# Altium footprint library jz_dlt0.51.PcbLib: 22 footprints (part 2 of 2)
Each footprint in its own frame and in the unit in brackets; x right, y up, seen from the top. Pads: shape width x height; smd on the part's side, far side on the other; paste and mask are expansions set on the pad; w line width, h text height; cw(c..) or ccw(c..) is an arc to the next point about the centre after c.
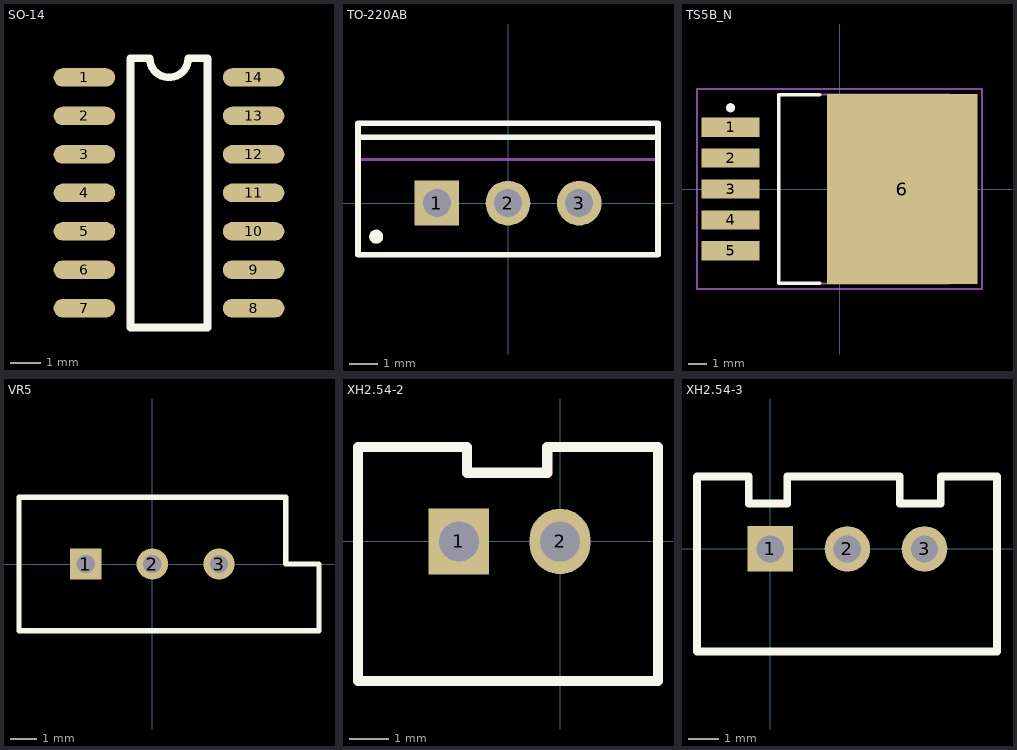
[diagram p1: the footprints below, top view; thin cyan lines are the x and y axes]

## SO-14 [mil]
pads (14):
  oval 80x24 smd: 1(142,-76) 2(142,-126) 3(142,-176) 4(142,-226) 5(142,-276) 6(142,-326) 7(142,-376) 8(362,-376) 9(362,-326) 10(362,-276) 11(362,-226) 12(362,-176) 13(362,-126) 14(362,-76)
Top Overlay:
  lines w10: 202,-401 202,-51 227,-51 ccw(c252,-51) 277,-51 302,-51 302,-401 202,-401

## TO-220AB [mm] "TO, Thru-Hole, Vertical, Heatsink Mounted; 3 In-Line Leads; Pitch 2.54 mm"
height 19.3
pads (3):
  rect 1.6x1.6 hole 1: 1(-2.54,0)
  round 1.6 hole 1: 2(0,0) 3(2.54,0)
Top Overlay:
  circle w0.25: c-4.7,-1.2 r0.125
  lines w0.2: -5.35,2.35 5.35,2.35 ; -5.35,-1.85 5.35,-1.85 5.35,2.85 -5.35,2.85 -5.35,-1.85
Mechanical 13:
  lines w0.1: -5.35,1.55 5.35,1.55 ; -5.35,-1.85 -5.35,2.85 5.35,2.85 5.35,-1.85 -5.35,-1.85
Mechanical 15:
  lines w0.1: -0.5,0 0.5,0 ; 0,-0.5 0,0.5
3D body: height 19.3, standoff 12.9, extent -5.349,1.551 5.349,2.849
3D body: height 12.9, standoff 4, extent -5.4,-1.9 5.4,2.9

## TS5B_N [mm] "D2-PAK, 6-Leads, Body 8.6x10.2mm, Pitch 1.7mm, Lead Span 14.1mm, IPC Medium Density"
height 4.65
pads (6):
  rect 3.2x1.05 smd: 1(-6,3.4) 2(-6,1.7) 3(-6,0) 4(-6,-1.7) 5(-6,-3.4)
  rect 8.3x10.45 smd: 6(3.45,0)
Top Overlay:
  circle w0.25: c-6,4.475 r0.125
  lines w0.2: -1.1,-5.2 -3.35,-5.2 -3.35,5.2 -1.1,5.2
Mechanical 13:
  lines w0.1: -3.35,-5.2 -3.35,5.2 6.05,5.2 6.05,-5.2 -3.35,-5.2
Mechanical 15:
  lines w0.1: -0.5,0 0.5,0 ; 0,-0.5 0,0.5 ; -7.85,-5.5 -7.85,5.5 7.85,5.5 7.85,-5.5 -7.85,-5.5
3D body: height 4.65, standoff 0, extent -3.35,-5.2 6.05,5.2

## VR5 [mm] "Thru-Hole; 3 Leads"
pads (3):
  rect 1.2x1.2 hole 0.7: 1(-2.54,0)
  round 1.2 hole 0.7: 2(0,0) 3(2.54,0)
Top Overlay:
  lines w0.2: -5.08,-2.54 -5.08,2.54 5.08,2.54 5.08,0 6.35,0 6.35,-2.54 -5.08,-2.54

## XH2.54-2 [mil]
pads (2):
  rect 60x65 hole 39.37: 1(-100.1,0)
  oval 60x65 hole 39.37: 2(0,0)
Top Overlay:
  lines w10: -200,-138 -200,93.3 -92.1,93.3 -92.1,68 -12.6,68 -12.6,93.3 66.2,93.3 97,93.3 97,-138 -200,-138
3D body "sip2_n.stp": height 275.59, standoff -118.11, extent -197.64,-142.11 97.64,94.11

## XH2.54-3 [mm]
pads (3):
  rect 1.5x1.5 hole 0.9: 1(0,0)
  round 1.5 hole 0.9: 2(2.54,0) 3(5.08,0)
Top Overlay:
  lines w0.254: -2.413,-3.378 7.468,-3.378 7.468,2.388 5.613,2.388 5.613,1.5 4.267,1.5 4.267,2.388 0.559,2.388 0.559,1.5 -0.711,1.5 -0.711,2.388 -2.413,2.388 -2.413,-3.378
3D body "3pin-2.5.step": height 7, standoff -3.4, extent -2.41,-3.408 7.49,2.342